# EAGLE library part TPS22860DBVR (library flync)
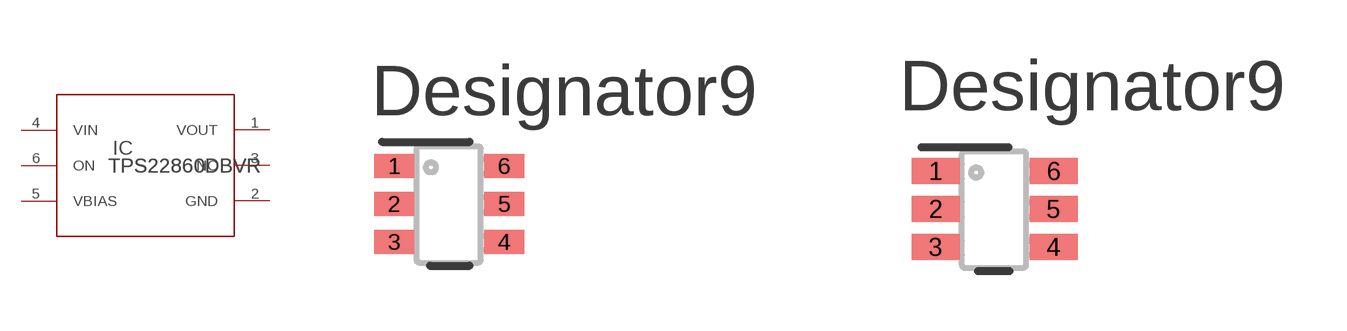
[diagram p4: symbol with the pads of DBV0006A_N; footprints DBV0006A_N, DBV0006A_M]

Designator prefix IC

## TPS22860DBVR  [DBV0006A_N]
1  VOUT  pwr
2  GND  pwr
3  NC  pas
4  VIN  pwr
5  VBIAS  in
6  ON  in

## TPS22860DBVRDBV0006A_M  [DBV0006A_M]
Pads as for DBV0006A_N

## TPS22860DBVRDBV0006A_L  [DBV0006A_L]
Pads as for DBV0006A_N

## Footprint DBV0006A_N (pad centres in mm)
smd 1 x 0.6: 1 -1.375,0.95; 2 -1.375,0; 3 -1.375,-0.95; 4 1.375,-0.95; 5 1.375,0; 6 1.375,0.95

## Footprint DBV0006A_M (pad centres in mm)
smd 1.2 x 0.65: 1 -1.475,0.95; 2 -1.475,0; 3 -1.475,-0.95; 4 1.475,-0.95; 5 1.475,0; 6 1.475,0.95

## Footprint DBV0006A_L (pad centres in mm)
smd 0.8 x 0.55: 1 -1.275,0.95; 2 -1.275,0; 3 -1.275,-0.95; 4 1.275,-0.95; 5 1.275,0; 6 1.275,0.95